# Altium schematic symbol library PicoBlade.SchLib: 10 symbols
Pins are listed as number, name and electrical type; pins without a type are passive.

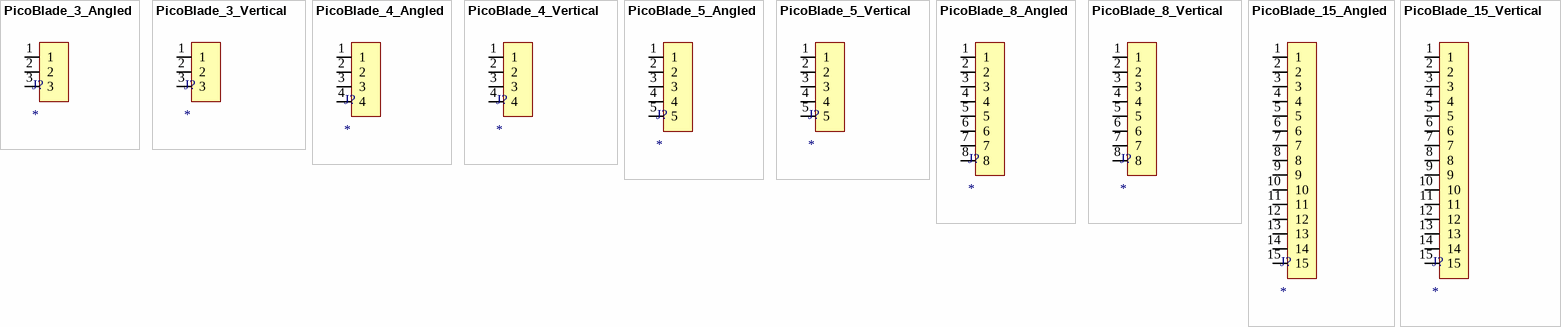
[diagram p0: symbols PicoBlade_3_Angled to PicoBlade_15_Vertical]

## PicoBlade_3_Angled
designator J?
Supplier 1: Mouser; Supplier Part Number 1: 538-53048-0310
footprint PicoBlade_3_ANGLED
pins: 1, 2, 3

## PicoBlade_3_Vertical
designator J?
Supplier 1: Mouser; Supplier Part Number 1: 538-53047-0310
footprint PicoBlade_3_Vertical
pins: 1, 2, 3

## PicoBlade_4_Angled
designator J?
Supplier 1: Mouser; Supplier Part Number 1: 538-53048-0410
footprint PicoBlade_4_Angled
pins: 1, 2, 3, 4

## PicoBlade_4_Vertical
designator J?
Supplier 1: Mouser; Supplier Part Number 1: 538-53047-0410
footprint PicoBlade_4_Vertical
pins: 1, 2, 3, 4

## PicoBlade_5_Angled
designator J?
Supplier 1: Mouser; Supplier Part Number 1: 538-53048-0510
footprint PicoBlade_5_Angled
pins: 1, 2, 3, 4, 5

## PicoBlade_5_Vertical
designator J?
Supplier 1: Mouser; Supplier Part Number 1: 538-53047-0510
footprint PicoBlade_5_Vertical
pins: 1, 2, 3, 4, 5

## PicoBlade_8_Angled
designator J?
Supplier 1: Mouser; Supplier Part Number 1: 538-53048-0810
footprint PicoBlade_8_Angled
pins: 1, 2, 3, 4, 5, 6, 7, 8

## PicoBlade_8_Vertical
designator J?
Supplier 1: Mouser; Supplier Part Number 1: 538-53047-0810
footprint PicoBlade_8_Vertical
pins: 1, 2, 3, 4, 5, 6, 7, 8

## PicoBlade_15_Angled
designator J?
Supplier 1: Mouser; Supplier Part Number 1: 538-53048-1510
footprint PicoBlade_15_Angled
pins: 1, 2, 3, 4, 5, 6, 7, 8, 9, 10, 11, 12, 13, 14, 15

## PicoBlade_15_Vertical
designator J?
Supplier 1: Mouser; Supplier Part Number 1: 538-53047-1510
footprint PicoBlade_15_Vertical
pins: 1, 2, 3, 4, 5, 6, 7, 8, 9, 10, 11, 12, 13, 14, 15